# Altium footprint library PcbLib1.PcbLib: 14 footprints
Each footprint in its own frame and in the unit in brackets; x right, y up, seen from the top. Pads: shape width x height; smd on the part's side, far side on the other; paste and mask are expansions set on the pad; w line width, h text height; cw(c..) or ccw(c..) is an arc to the next point about the centre after c.
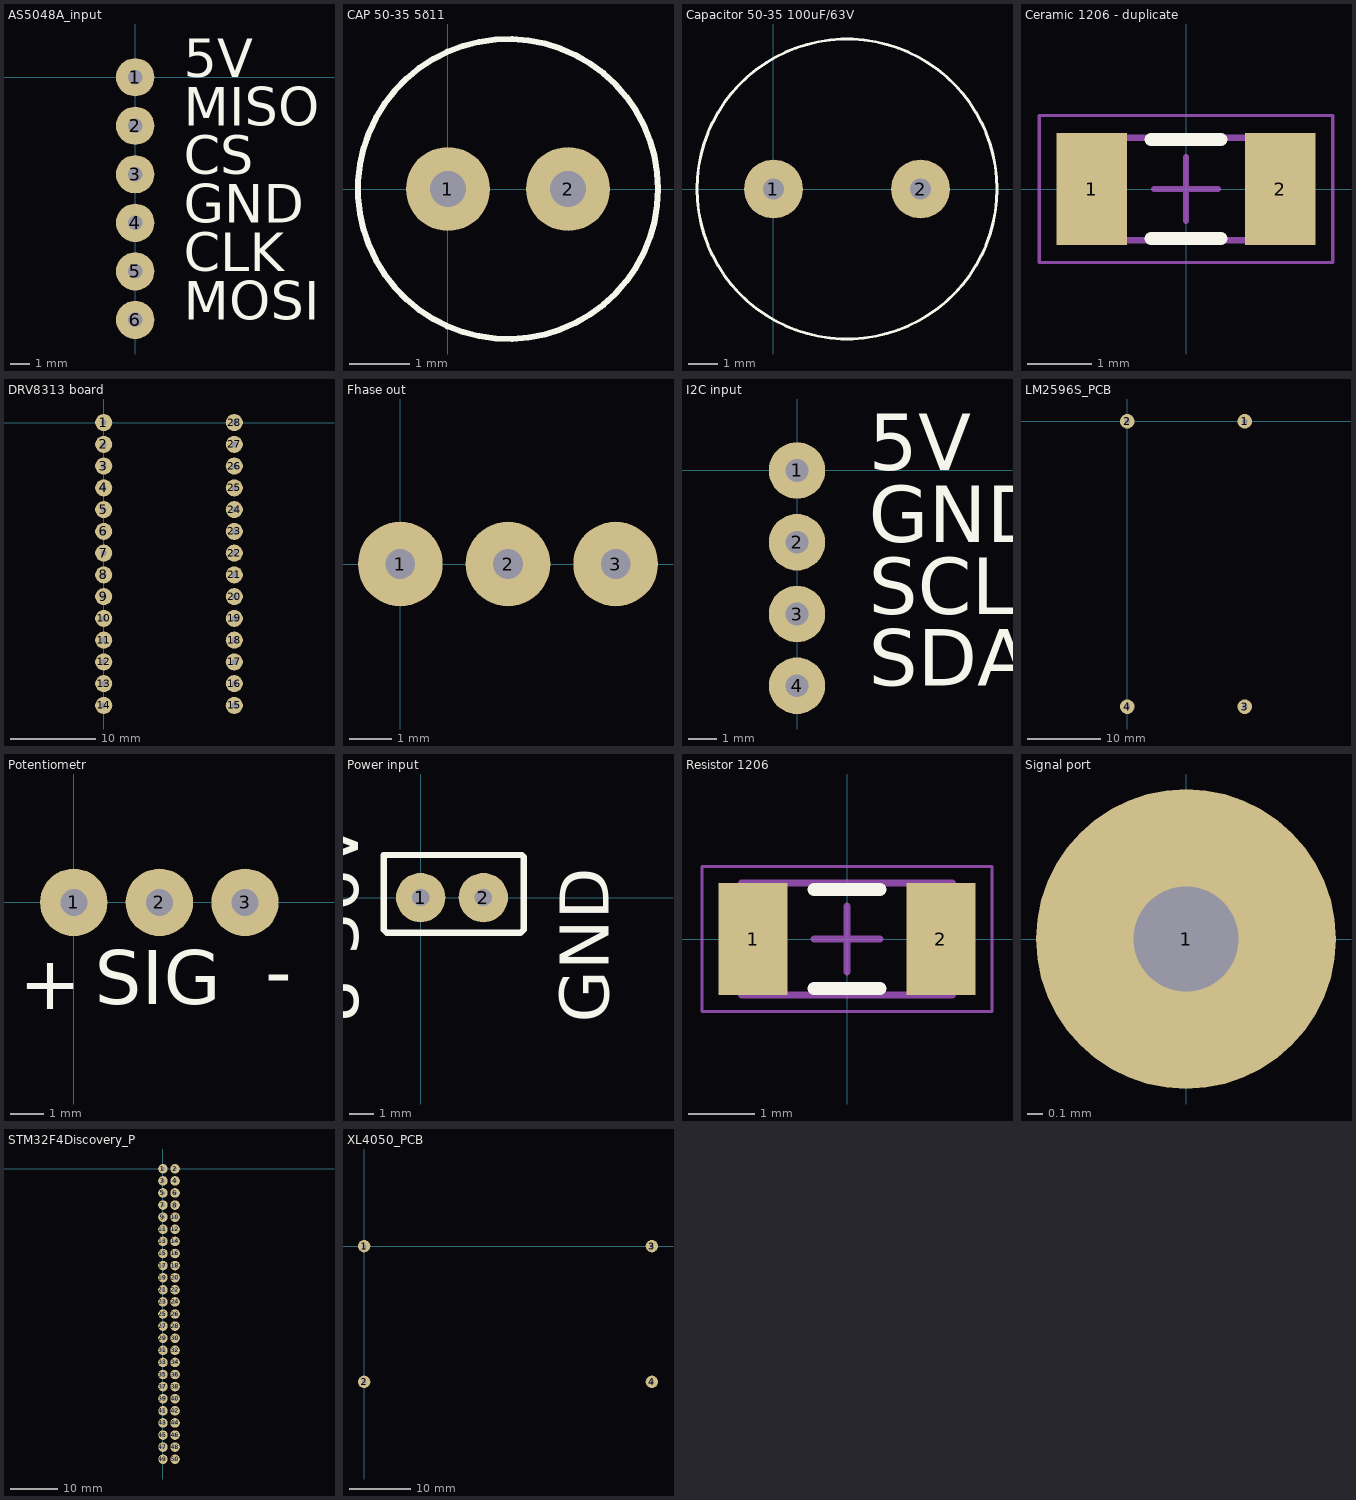
[diagram p0: the footprints below, top view; thin cyan lines are the x and y axes]

## AS5048A_input [mm]
pads (6):
  round 2 hole 0.762: 1(0,0) 2(0,-2.54) 3(0,-5.08) 4(0,-7.62) 5(0,-10.16) 6(0,-12.7)
Top Overlay:
  text "5V" at 2.54,0 h2
  text "MISO" at 2.54,-2.54 h2
  text "CS" at 2.54,-5.08 h2
  text "GND" at 2.54,-7.62 h2
  text "CLK" at 2.54,-10.16 h2
  text "MOSI" at 2.54,-12.7 h2

## CAP 50-35 5õ11 [mm]
pads (2):
  round 1.4 hole 0.6: 1(0,0) 2(2,0)
Top Overlay:
  circle w0.1: c1,0 r2.5

## Capacitor 50-35 100uF/63V [mm]
pads (2):
  round 2 hole 0.7: 1(0,0) 2(5,0)
Top Overlay:
  circle w0.1: c2.5,0 r5.099

## Ceramic 1206 - duplicate [mm] "Chip Capacitor, 2-Leads, Body 3,20x1,60mm, IPC Medium Density"
height 1.53
pads (2):
  rect 1.1x1.75 smd: 1(-1.475,0) 2(1.475,0)
Top Overlay:
  lines w0.2: -0.55,-0.775 0.55,-0.775 ; -0.55,0.775 0.55,0.775
Mechanical 13:
  lines w0.1: -1.6,-0.8 1.6,-0.8 1.6,0.8 -1.6,0.8 -1.6,-0.8
Mechanical 15:
  lines w0.05: -2.3,-1.15 2.3,-1.15 2.3,1.15 -2.3,1.15 -2.3,-1.15
  lines w0.1: -0.5,0 0.5,0 ; 0,-0.5 0,0.5
3D body "CAPC3216X15N.step": height 1.53, standoff 0, extent -1.6,-0.8 1.6,0.8

## DRV8313 board [mm]
pads (28):
  round 2 hole 0.7: 1(0,0) 2(0,-2.54) 3(0,-5.08) 4(0,-7.62) 5(0,-10.16) 6(0,-12.7) 7(0,-15.24) 8(0,-17.78) 9(0,-20.32) 10(0,-22.86) 11(0,-25.4) 12(0,-27.94) 13(0,-30.48) 14(0,-33.02) 15(15.24,-33.02) 16(15.24,-30.48) 17(15.24,-27.94) 18(15.24,-25.4) 19(15.24,-22.86) 20(15.24,-20.32) 21(15.24,-17.78) 22(15.24,-15.24) 23(15.24,-12.7) 24(15.24,-10.16) 25(15.24,-7.62) 26(15.24,-5.08) 27(15.24,-2.54) 28(15.24,0)

## Fhase out [mm]
pads (3):
  round 2 hole 0.7: 1(0,0) 2(2.54,0) 3(5.08,0)

## I2C input [mm]
pads (4):
  round 2 hole 0.8: 1(0,0) 2(0,-2.54) 3(0,-5.08) 4(0,-7.62)
Top Overlay:
  text "SDA" at 2.54,-7.62 h2
  text "SCL" at 2.54,-5.08 h2
  text "GND" at 2.54,-2.54 h2
  text "5V" at 2.54,0 h2

## LM2596S_PCB [mm]
pads (4):
  round 2 hole 0.8: 1(16,0) 2(0,0) 3(16,-38.85) 4(0,-38.85)

## Potentiometr [mm]
pads (3):
  round 2 hole 0.8: 1(0,0) 2(2.54,0) 3(5.08,0)
Top Overlay:
  text "SIG" at 0.625,-3.025 h1.6
  text "-" at 5.675,-2.85 h1.6
  text "+" at -1.625,-3.175 h1.6

## Power input [mm]
pads (2):
  round 2 hole 0.7: 1(0,0) 2(2.54,0)
Top Overlay:
  lines w0.254: -1.5,-1.3 -1.375,-1.425 4.05,-1.425 4.175,-1.3 4.175,1.65 4.1,1.725 -1.5,1.725 -1.5,-1.3
  text "GND" at 7.62,-5.08 h2
  text "8-36V" at -2.54,-5.08 h2

## Resistor 1206 [mm] "Chip Resistor, 2-Leads, Body 3,10x1,60mm, IPC Medium Density"
height 0.6
pads (2):
  rect 1.05x1.7 smd: 1(-1.425,0) 2(1.425,0)
Top Overlay:
  lines w0.2: -0.5,-0.75 0.5,-0.75 ; -0.5,0.75 0.5,0.75
Mechanical 13:
  lines w0.1: -1.6,-0.85 -1.6,0.85 1.6,0.85 1.6,-0.85 -1.6,-0.85
Mechanical 15:
  lines w0.05: -2.2,-1.1 -2.2,1.1 2.2,1.1 2.2,-1.1 -2.2,-1.1
  lines w0.1: -0.5,0 0.5,0 ; 0,-0.5 0,0.5
3D body "RESC3116X06N.step": height 0.6, standoff 0, extent -1.6,-0.85 1.6,0.85

## Signal port [mm]
pads (1):
  round 2 hole 0.7: 1(0,0)

## STM32F4Discovery_P [mm]
pads (50):
  round 2 hole 0.762: 1(0,0) 2(2.54,0) 3(0,-2.54) 4(2.54,-2.54) 5(0,-5.08) 6(2.54,-5.08) 7(0,-7.62) 8(2.54,-7.62) 9(0,-10.16) 10(2.54,-10.16) 11(0,-12.7) 12(2.54,-12.7) 13(0,-15.24) 14(2.54,-15.24) 15(0,-17.78) 16(2.54,-17.78) 17(0,-20.32) 18(2.54,-20.32) 19(0,-22.86) 20(2.54,-22.86) 21(0,-25.4) 22(2.54,-25.4) 23(0,-27.94) 24(2.54,-27.94) 25(0,-30.48) 26(2.54,-30.48) 27(0,-33.02) 28(2.54,-33.02) 29(0,-35.56) 30(2.54,-35.56) 31(0,-38.1) 32(2.54,-38.1) 33(0,-40.64) 34(2.54,-40.64) 35(0,-43.18) 36(2.54,-43.18) 37(0,-45.72) 38(2.54,-45.72) 39(0,-48.26) 40(2.54,-48.26) 41(0,-50.8) 42(2.54,-50.8) 43(0,-53.34) 44(2.54,-53.34) 45(0,-55.88) 46(2.54,-55.88) 47(0,-58.42) 48(2.54,-58.42) 49(0,-60.96) 50(2.54,-60.96)

## XL4050_PCB [mm]
pads (4):
  round 2 hole 0.762: 1(0,0) 2(0,-22) 3(46.65,0) 4(46.65,-22)